# Altium footprint library CONN_TBLOCK_8P25to15P0.PcbLib: 118 footprints (part 2 of 8)
Each footprint in its own frame and in the unit in brackets; x right, y up, seen from the top. Pads: shape width x height; smd on the part's side, far side on the other; paste and mask are expansions set on the pad; w line width, h text height; cw(c..) or ccw(c..) is an arc to the next point about the centre after c.
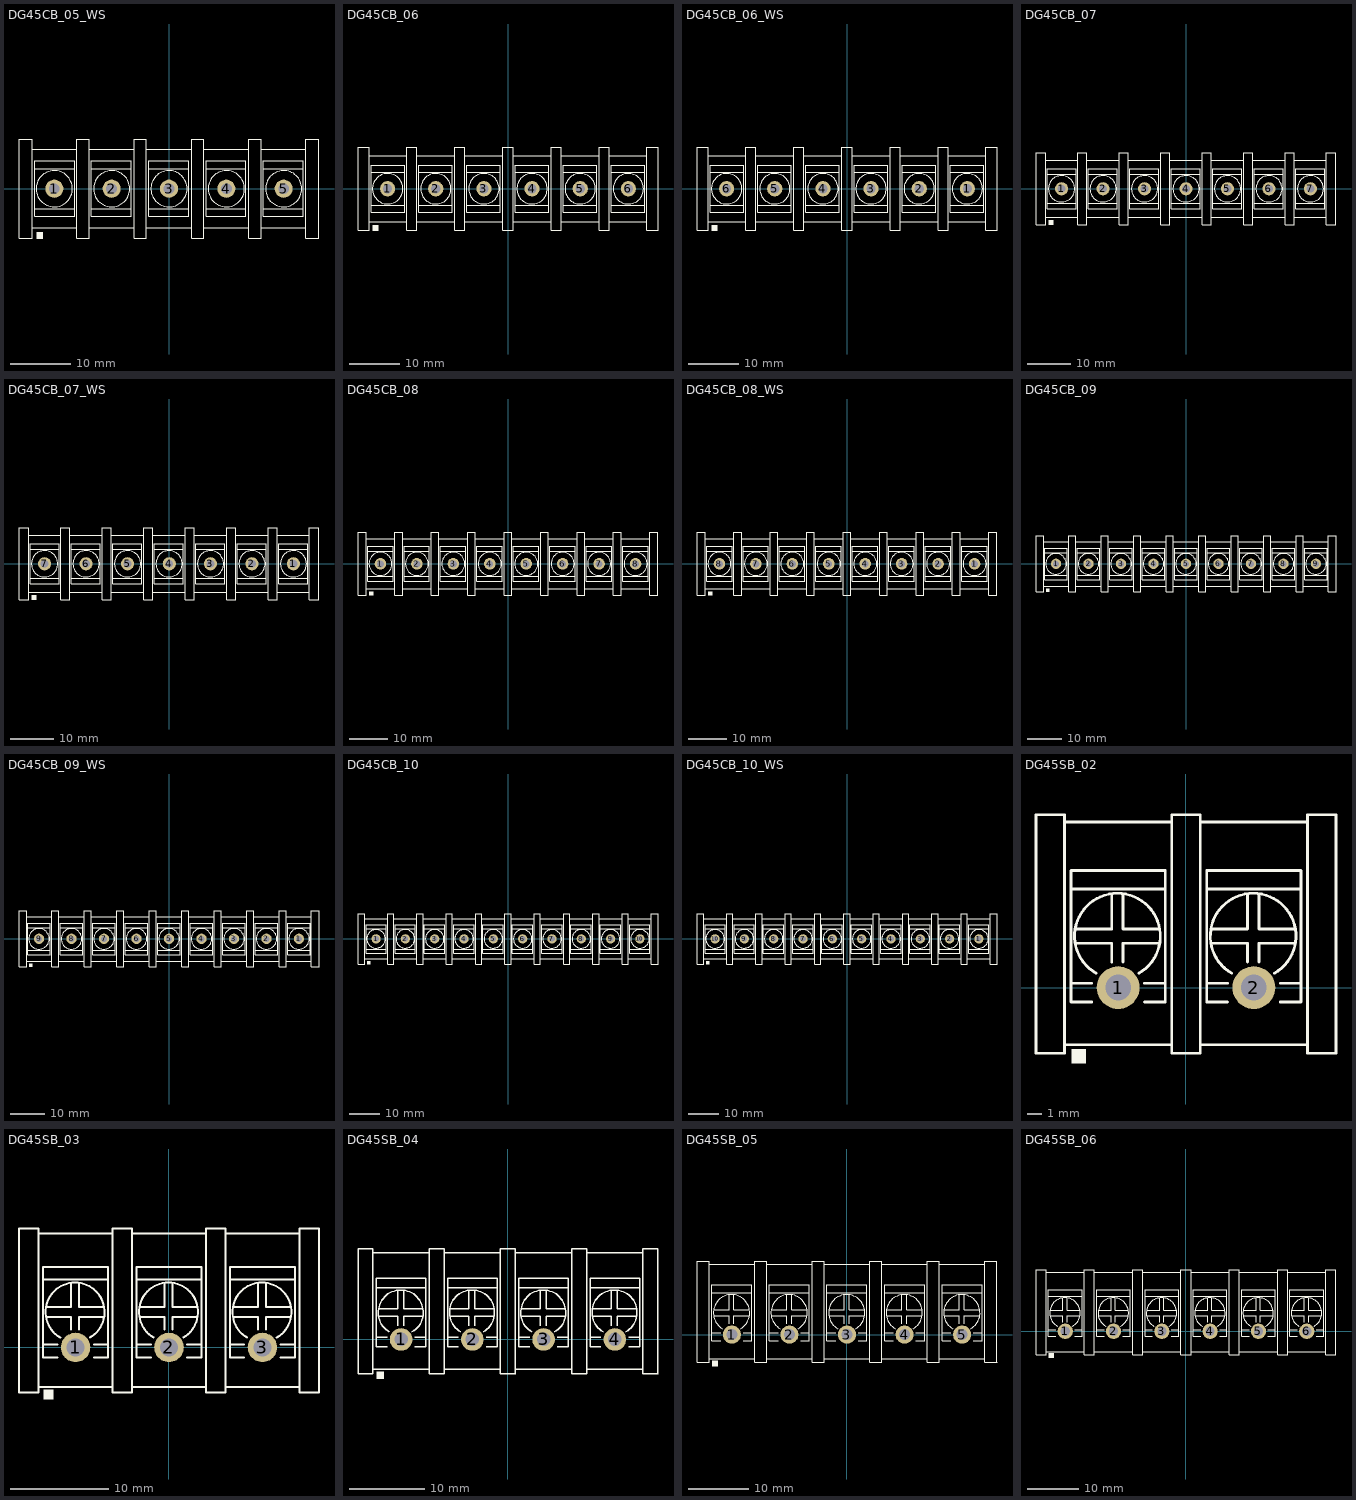
[diagram p1: the footprints below, top view; thin cyan lines are the x and y axes]

## DG45CB_05_WS [mm] "Terminal Block Screw, Pitch 9.5mm, 20A/300v, with Spade"
height 20
pads (5):
  round 3 / inner round 3 / far side oval 3.5x5 hole 1.8: 1(-19,0) 2(-9.5,0) 3(0,0) 4(9.5,0) 5(19,0)
Top Overlay:
  circle w0.2: c19,0 r3
  circle w0.2: c9.5,0 r3
  circle w0.2: c-9.5,0 r3
  circle w0.2: c-19,0 r3
  circle w0.2: c0,0 r3
  rectangle: -21.95,-8.3 -20.85,-7.2
  lines w0.2: -22.65,-6.5 -15.25,-6.5 ; -22.65,6.5 -15.25,6.5 ; -22.25,-3.3 -15.65,-3.3 ; -22.25,3.3 -15.65,3.3 ; -13.25,-6.5 -5.85,-6.5 ; -13.25,6.5 -5.85,6.5 ; -12.85,-3.3 -6.25,-3.3 ; -12.85,3.3 -6.25,3.3 ; -3.75,-6.5 3.65,-6.5 ; -3.75,6.5 3.65,6.5 ; -3.35,-3.3 3.25,-3.3 ; -3.35,3.3 3.25,3.3 ; 5.75,-6.5 13.15,-6.5 ; 5.75,6.5 13.15,6.5 ; 6.15,-3.3 12.75,-3.3 ; 6.15,3.3 12.75,3.3 ; 15.25,-6.5 22.65,-6.5 ; 15.25,6.5 22.65,6.5 ; 15.65,-3.3 22.25,-3.3 ; 15.65,3.3 22.25,3.3 ; -24.85,-8.2 -22.65,-8.2 -22.65,8.2 -24.85,8.2 -24.85,-8.2 ; -22.25,-4.6 -15.65,-4.6 -15.65,4.6 -22.25,4.6 -22.25,-4.6 ; -15.25,-8.2 -15.25,8.2 -13.25,8.2 -13.25,-8.2 -15.25,-8.2 ; -12.85,-4.6 -12.85,4.6 -6.25,4.6 -6.25,-4.6 -12.85,-4.6 ; -5.75,-8.2 -3.75,-8.2 -3.75,8.2 -5.75,8.2 -5.75,-8.2 ; -3.35,-4.6 3.25,-4.6 3.25,4.6 -3.35,4.6 -3.35,-4.6 ; 3.75,-8.2 5.75,-8.2 5.75,8.2 3.75,8.2 3.75,-8.2 ; 6.15,-4.6 12.75,-4.6 12.75,4.6 6.15,4.6 6.15,-4.6 ; 13.25,-8.2 15.25,-8.2 15.25,8.2 13.25,8.2 13.25,-8.2 ; 15.65,-4.6 22.25,-4.6 22.25,4.6 15.65,4.6 15.65,-4.6 ; 22.65,-8.2 22.65,8.2 24.85,8.2 24.85,-8.2 22.65,-8.2
3D body "SV5.5-3.5-tin.step": height 17.15, standoff 9.25, extent 14.85,-3.792 23.15,21.7
3D body "SV5.5-3.5-tin.step": height 17.15, standoff 9.25, extent 5.35,-3.792 13.65,21.7
3D body "SV5.5-3.5-tin.step": height 17.15, standoff 9.25, extent -4.326,-3.792 3.974,21.7
3D body "SV5.5-3.5-tin.step": height 17.15, standoff 9.25, extent -13.65,-3.792 -5.35,21.7
3D body "SV5.5-3.5-tin.step": height 17.15, standoff 9.25, extent -23.15,-3.792 -14.85,21.7
3D body "DG45C-B-02P-13.stp": height 18.4, standoff -5.19, extent 3.8,-8.15 24.7,8.15
3D body "DG45C-B-04P-13.stp": height 18.4, standoff -5.19, extent -24.7,-8.15 15.2,8.15

## DG45CB_06 [mm] "Terminal Block Screw, Pitch 9.5mm, 20A/300v"
height 20
pads (6):
  round 3 / inner round 3 / far side oval 3.5x5 hole 1.8: 1(-23.75,0) 2(-14.25,0) 3(-4.75,0) 4(4.75,0) 5(14.25,0) 6(23.75,0)
Top Overlay:
  circle w0.2: c23.75,0 r3
  circle w0.2: c14.25,0 r3
  circle w0.2: c4.75,0 r3
  circle w0.2: c-14.25,0 r3
  circle w0.2: c-23.75,0 r3
  circle w0.2: c-4.75,0 r3
  rectangle: -26.7,-8.3 -25.6,-7.2
  lines w0.2: -27.4,-6.5 -20,-6.5 ; -27.4,6.5 -20,6.5 ; -27,-3.3 -20.4,-3.3 ; -27,3.3 -20.4,3.3 ; -18,-6.5 -10.6,-6.5 ; -18,6.5 -10.6,6.5 ; -17.6,-3.3 -11,-3.3 ; -17.6,3.3 -11,3.3 ; -8.5,-6.5 -1.1,-6.5 ; -8.5,6.5 -1.1,6.5 ; -8.1,-3.3 -1.5,-3.3 ; -8.1,3.3 -1.5,3.3 ; 1,-8.2 1,8.2 ; 1,-6.5 8.4,-6.5 ; 1,6.5 8.4,6.5 ; 1,-8.2 -1,-8.2 -1,8.2 1,8.2 ; 1.4,-3.3 8,-3.3 ; 1.4,3.3 8,3.3 ; 10.5,-6.5 17.9,-6.5 ; 10.5,6.5 17.9,6.5 ; 10.9,-3.3 17.5,-3.3 ; 10.9,3.3 17.5,3.3 ; 20,-6.5 27.4,-6.5 ; 20,6.5 27.4,6.5 ; 20.4,-3.3 27,-3.3 ; 20.4,3.3 27,3.3 ; -29.6,-8.2 -27.4,-8.2 -27.4,8.2 -29.6,8.2 -29.6,-8.2 ; -27,-4.6 -20.4,-4.6 -20.4,4.6 -27,4.6 -27,-4.6 ; -20,-8.2 -20,8.2 -18,8.2 -18,-8.2 -20,-8.2 ; -17.6,-4.6 -17.6,4.6 -11,4.6 -11,-4.6 -17.6,-4.6 ; -10.5,-8.2 -8.5,-8.2 -8.5,8.2 -10.5,8.2 -10.5,-8.2 ; -8.1,-4.6 -1.5,-4.6 -1.5,4.6 -8.1,4.6 -8.1,-4.6 ; 1.4,-4.6 8,-4.6 8,4.6 1.4,4.6 1.4,-4.6 ; 8.5,-8.2 10.5,-8.2 10.5,8.2 8.5,8.2 8.5,-8.2 ; 10.9,-4.6 17.5,-4.6 17.5,4.6 10.9,4.6 10.9,-4.6 ; 18,-8.2 20,-8.2 20,8.2 18,8.2 18,-8.2 ; 20.4,-4.6 27,-4.6 27,4.6 20.4,4.6 20.4,-4.6 ; 27.4,-8.2 27.4,8.2 29.6,8.2 29.6,-8.2 27.4,-8.2
3D body "DG45C-B-06P-13.stp": height 18.4, standoff -5.19, extent -29.45,-8.15 29.45,8.15

## DG45CB_06_WS [mm] "Terminal Block Screw, Pitch 9.5mm, 20A/300v, with Spade"
height 19
pads (6):
  round 3 / inner round 3 / far side oval 3.5x5 hole 1.8: 1(23.75,0) 2(14.25,0) 3(4.75,0) 4(-4.75,0) 5(-14.25,0) 6(-23.75,0)
Top Overlay:
  circle w0.2: c23.75,0 r3
  circle w0.2: c14.25,0 r3
  circle w0.2: c4.75,0 r3
  circle w0.2: c-14.25,0 r3
  circle w0.2: c-23.75,0 r3
  circle w0.2: c-4.75,0 r3
  rectangle: -26.7,-8.3 -25.6,-7.2
  lines w0.2: -27.4,-6.5 -20,-6.5 ; -27.4,6.5 -20,6.5 ; -27,-3.3 -20.4,-3.3 ; -27,3.3 -20.4,3.3 ; -18,-6.5 -10.6,-6.5 ; -18,6.5 -10.6,6.5 ; -17.6,-3.3 -11,-3.3 ; -17.6,3.3 -11,3.3 ; -8.5,-6.5 -1.1,-6.5 ; -8.5,6.5 -1.1,6.5 ; -8.1,-3.3 -1.5,-3.3 ; -8.1,3.3 -1.5,3.3 ; 1,-8.2 1,8.2 ; 1,-6.5 8.4,-6.5 ; 1,6.5 8.4,6.5 ; 1,-8.2 -1,-8.2 -1,8.2 1,8.2 ; 1.4,-3.3 8,-3.3 ; 1.4,3.3 8,3.3 ; 10.5,-6.5 17.9,-6.5 ; 10.5,6.5 17.9,6.5 ; 10.9,-3.3 17.5,-3.3 ; 10.9,3.3 17.5,3.3 ; 20,-6.5 27.4,-6.5 ; 20,6.5 27.4,6.5 ; 20.4,-3.3 27,-3.3 ; 20.4,3.3 27,3.3 ; -29.6,-8.2 -27.4,-8.2 -27.4,8.2 -29.6,8.2 -29.6,-8.2 ; -27,-4.6 -20.4,-4.6 -20.4,4.6 -27,4.6 -27,-4.6 ; -20,-8.2 -20,8.2 -18,8.2 -18,-8.2 -20,-8.2 ; -17.6,-4.6 -17.6,4.6 -11,4.6 -11,-4.6 -17.6,-4.6 ; -10.5,-8.2 -8.5,-8.2 -8.5,8.2 -10.5,8.2 -10.5,-8.2 ; -8.1,-4.6 -1.5,-4.6 -1.5,4.6 -8.1,4.6 -8.1,-4.6 ; 1.4,-4.6 8,-4.6 8,4.6 1.4,4.6 1.4,-4.6 ; 8.5,-8.2 10.5,-8.2 10.5,8.2 8.5,8.2 8.5,-8.2 ; 10.9,-4.6 17.5,-4.6 17.5,4.6 10.9,4.6 10.9,-4.6 ; 18,-8.2 20,-8.2 20,8.2 18,8.2 18,-8.2 ; 20.4,-4.6 27,-4.6 27,4.6 20.4,4.6 20.4,-4.6 ; 27.4,-8.2 27.4,8.2 29.6,8.2 29.6,-8.2 27.4,-8.2
3D body "DG45C-B-06P-13.stp": height 18.4, standoff -5.19, extent -29.45,-8.15 29.45,8.15
3D body "SV5.5-3.5-tin.step": height 17.15, standoff 9.25, extent -27.9,-3.792 -19.6,21.7
3D body "SV5.5-3.5-tin.step": height 17.15, standoff 9.25, extent -18.4,-3.792 -10.1,21.7
3D body "SV5.5-3.5-tin.step": height 17.15, standoff 9.25, extent -8.9,-3.792 -0.6,21.7
3D body "SV5.5-3.5-tin.step": height 17.15, standoff 9.25, extent 0.6,-3.792 8.9,21.7
3D body "SV5.5-3.5-tin.step": height 17.15, standoff 9.25, extent 10.1,-3.792 18.4,21.7
3D body "SV5.5-3.5-tin.step": height 17.15, standoff 9.25, extent 19.6,-3.792 27.9,21.7

## DG45CB_07 [mm] "Terminal Block Screw, Pitch 9.5mm, 20A/300v"
height 20
pads (7):
  round 3 / inner round 3 / far side oval 3.5x5 hole 1.8: 1(-28.5,0) 2(-19,0) 3(-9.5,0) 4(0,0) 5(9.5,0) 6(19,0) 7(28.5,0)
Top Overlay:
  circle w0.2: c19,0 r3
  circle w0.2: c9.5,0 r3
  circle w0.2: c0,0 r3
  circle w0.2: c-19,0 r3
  circle w0.2: c-28.5,0 r3
  circle w0.2: c-9.5,0 r3
  circle w0.2: c28.5,0 r3
  rectangle: -31.45,-8.3 -30.35,-7.2
  lines w0.2: -32.15,-6.5 -24.75,-6.5 ; -32.15,6.5 -24.75,6.5 ; -31.75,-3.3 -25.15,-3.3 ; -31.75,3.3 -25.15,3.3 ; -22.75,-6.5 -15.35,-6.5 ; -22.75,6.5 -15.35,6.5 ; -22.35,-3.3 -15.75,-3.3 ; -22.35,3.3 -15.75,3.3 ; -13.25,-6.5 -5.85,-6.5 ; -13.25,6.5 -5.85,6.5 ; -12.85,-3.3 -6.25,-3.3 ; -12.85,3.3 -6.25,3.3 ; -3.75,-6.5 3.65,-6.5 ; -3.75,6.5 3.65,6.5 ; -3.35,-3.3 3.25,-3.3 ; -3.35,3.3 3.25,3.3 ; 5.75,-6.5 13.15,-6.5 ; 5.75,6.5 13.15,6.5 ; 6.15,-3.3 12.75,-3.3 ; 6.15,3.3 12.75,3.3 ; 15.25,-6.5 22.65,-6.5 ; 15.25,6.5 22.65,6.5 ; 15.65,-3.3 22.25,-3.3 ; 15.65,3.3 22.25,3.3 ; 24.75,-6.5 32.15,-6.5 ; 24.75,6.5 32.15,6.5 ; 25.15,-3.3 31.75,-3.3 ; 25.15,3.3 31.75,3.3 ; -34.35,-8.2 -32.15,-8.2 -32.15,8.2 -34.35,8.2 -34.35,-8.2 ; -31.75,-4.6 -25.15,-4.6 -25.15,4.6 -31.75,4.6 -31.75,-4.6 ; -24.75,-8.2 -24.75,8.2 -22.75,8.2 -22.75,-8.2 -24.75,-8.2 ; -22.35,-4.6 -22.35,4.6 -15.75,4.6 -15.75,-4.6 -22.35,-4.6 ; -15.25,-8.2 -13.25,-8.2 -13.25,8.2 -15.25,8.2 -15.25,-8.2 ; -12.85,-4.6 -6.25,-4.6 -6.25,4.6 -12.85,4.6 -12.85,-4.6 ; -5.75,-8.2 -3.75,-8.2 -3.75,8.2 -5.75,8.2 -5.75,-8.2 ; -3.35,-4.6 3.25,-4.6 3.25,4.6 -3.35,4.6 -3.35,-4.6 ; 3.75,-8.2 5.75,-8.2 5.75,8.2 3.75,8.2 3.75,-8.2 ; 6.15,-4.6 12.75,-4.6 12.75,4.6 6.15,4.6 6.15,-4.6 ; 13.25,-8.2 15.25,-8.2 15.25,8.2 13.25,8.2 13.25,-8.2 ; 15.65,-4.6 22.25,-4.6 22.25,4.6 15.65,4.6 15.65,-4.6 ; 22.75,-8.2 24.75,-8.2 24.75,8.2 22.75,8.2 22.75,-8.2 ; 25.15,-4.6 31.75,-4.6 31.75,4.6 25.15,4.6 25.15,-4.6 ; 32.15,-8.2 32.15,8.2 34.35,8.2 34.35,-8.2 32.15,-8.2
3D body "DG45C-B-07P-13.stp": height 18.4, standoff -5.19, extent -34.2,-8.15 34.2,8.15

## DG45CB_07_WS [mm] "Terminal Block Screw, Pitch 9.5mm, 20A/300v, with Spade"
height 19
pads (7):
  round 3 / inner round 3 / far side oval 3.5x5 hole 1.8: 1(28.5,0) 2(19,0) 3(9.5,0) 4(0.064,0) 5(-9.5,0) 6(-19,0) 7(-28.5,0)
Top Overlay:
  circle w0.2: c28.5,0 r3
  circle w0.2: c-9.5,0 r3
  circle w0.2: c-28.5,0 r3
  circle w0.2: c-19,0 r3
  circle w0.2: c0,0 r3
  circle w0.2: c9.5,0 r3
  circle w0.2: c19,0 r3
  rectangle: -31.45,-8.3 -30.35,-7.2
  lines w0.2: -32.15,-6.5 -24.75,-6.5 ; -32.15,6.5 -24.75,6.5 ; -31.75,-3.3 -25.15,-3.3 ; -31.75,3.3 -25.15,3.3 ; -22.75,-6.5 -15.35,-6.5 ; -22.75,6.5 -15.35,6.5 ; -22.35,-3.3 -15.75,-3.3 ; -22.35,3.3 -15.75,3.3 ; -13.25,-6.5 -5.85,-6.5 ; -13.25,6.5 -5.85,6.5 ; -12.85,-3.3 -6.25,-3.3 ; -12.85,3.3 -6.25,3.3 ; -3.75,-6.5 3.65,-6.5 ; -3.75,6.5 3.65,6.5 ; -3.35,-3.3 3.25,-3.3 ; -3.35,3.3 3.25,3.3 ; 5.75,-6.5 13.15,-6.5 ; 5.75,6.5 13.15,6.5 ; 6.15,-3.3 12.75,-3.3 ; 6.15,3.3 12.75,3.3 ; 15.25,-6.5 22.65,-6.5 ; 15.25,6.5 22.65,6.5 ; 15.65,-3.3 22.25,-3.3 ; 15.65,3.3 22.25,3.3 ; 24.75,-6.5 32.15,-6.5 ; 24.75,6.5 32.15,6.5 ; 25.15,-3.3 31.75,-3.3 ; 25.15,3.3 31.75,3.3 ; -34.35,-8.2 -34.35,8.2 -32.15,8.2 -32.15,-8.2 -34.35,-8.2 ; -31.75,-4.6 -31.75,4.6 -25.15,4.6 -25.15,-4.6 -31.75,-4.6 ; -24.75,-8.2 -22.75,-8.2 -22.75,8.2 -24.75,8.2 -24.75,-8.2 ; -22.35,-4.6 -15.75,-4.6 -15.75,4.6 -22.35,4.6 -22.35,-4.6 ; -15.25,-8.2 -15.25,8.2 -13.25,8.2 -13.25,-8.2 -15.25,-8.2 ; -12.85,-4.6 -12.85,4.6 -6.25,4.6 -6.25,-4.6 -12.85,-4.6 ; -5.75,-8.2 -5.75,8.2 -3.75,8.2 -3.75,-8.2 -5.75,-8.2 ; -3.35,-4.6 -3.35,4.6 3.25,4.6 3.25,-4.6 -3.35,-4.6 ; 3.75,-8.2 3.75,8.2 5.75,8.2 5.75,-8.2 3.75,-8.2 ; 6.15,-4.6 6.15,4.6 12.75,4.6 12.75,-4.6 6.15,-4.6 ; 13.25,-8.2 13.25,8.2 15.25,8.2 15.25,-8.2 13.25,-8.2 ; 15.65,-4.6 15.65,4.6 22.25,4.6 22.25,-4.6 15.65,-4.6 ; 22.75,-8.2 22.75,8.2 24.75,8.2 24.75,-8.2 22.75,-8.2 ; 25.15,-4.6 25.15,4.6 31.75,4.6 31.75,-4.6 25.15,-4.6 ; 32.15,-8.2 34.35,-8.2 34.35,8.2 32.15,8.2 32.15,-8.2
3D body "DG45C-B-07P-13.stp": height 18.4, standoff -5.19, extent -34.2,-8.15 34.2,8.15
3D body "SV5.5-3.5-tin.step": height 17.15, standoff 9.25, extent -32.65,-3.792 -24.35,21.7
3D body "SV5.5-3.5-tin.step": height 17.15, standoff 9.25, extent -23.15,-3.792 -14.85,21.7
3D body "SV5.5-3.5-tin.step": height 17.15, standoff 9.25, extent -13.65,-3.792 -5.35,21.7
3D body "SV5.5-3.5-tin.step": height 17.15, standoff 9.25, extent -4.34,-3.792 3.959,21.7
3D body "SV5.5-3.5-tin.step": height 17.15, standoff 9.25, extent 5.35,-3.792 13.65,21.7
3D body "SV5.5-3.5-tin.step": height 17.15, standoff 9.25, extent 14.85,-3.792 23.15,21.7
3D body "SV5.5-3.5-tin.step": height 17.15, standoff 9.25, extent 24.35,-3.792 32.65,21.7

## DG45CB_08 [mm] "Terminal Block Screw, Pitch 9.5mm, 20A/300v"
height 20
pads (8):
  round 3 / inner round 3 / far side oval 3.5x5 hole 1.8: 1(-33.25,0) 2(-23.75,0) 3(-14.25,0) 4(-4.75,0) 5(4.75,0) 6(14.25,0) 7(23.75,0) 8(33.25,0)
Top Overlay:
  circle w0.2: c33.25,0 r3
  circle w0.2: c14.25,0 r3
  circle w0.2: c4.75,0 r3
  circle w0.2: c-4.75,0 r3
  circle w0.2: c-23.75,0 r3
  circle w0.2: c-33.25,0 r3
  circle w0.2: c-14.25,0 r3
  circle w0.2: c23.75,0 r3
  rectangle: -36.2,-8.3 -35.1,-7.2
  lines w0.2: -36.9,-6.5 -29.5,-6.5 ; -36.9,6.5 -29.5,6.5 ; -36.5,-3.3 -29.9,-3.3 ; -36.5,3.3 -29.9,3.3 ; -27.5,-8.2 -27.5,8.2 ; -27.5,-6.5 -20.1,-6.5 ; -27.5,6.5 -20.1,6.5 ; -27.5,-8.2 -29.5,-8.2 -29.5,8.2 -27.5,8.2 ; -27.1,-3.3 -20.5,-3.3 ; -27.1,3.3 -20.5,3.3 ; -18,-6.5 -10.6,-6.5 ; -18,6.5 -10.6,6.5 ; -17.6,-3.3 -11,-3.3 ; -17.6,3.3 -11,3.3 ; -8.5,-6.5 -1.1,-6.5 ; -8.5,6.5 -1.1,6.5 ; -8.1,-3.3 -1.5,-3.3 ; -8.1,3.3 -1.5,3.3 ; 1,-8.2 1,8.2 ; 1,-6.5 8.4,-6.5 ; 1,6.5 8.4,6.5 ; 1,-8.2 -1,-8.2 -1,8.2 1,8.2 ; 1.4,-3.3 8,-3.3 ; 1.4,3.3 8,3.3 ; 10.5,-6.5 17.9,-6.5 ; 10.5,6.5 17.9,6.5 ; 10.9,-3.3 17.5,-3.3 ; 10.9,3.3 17.5,3.3 ; 20,-6.5 27.4,-6.5 ; 20,6.5 27.4,6.5 ; 20.4,-3.3 27,-3.3 ; 20.4,3.3 27,3.3 ; 29.5,-6.5 36.9,-6.5 ; 29.5,6.5 36.9,6.5 ; 29.9,-3.3 36.5,-3.3 ; 29.9,3.3 36.5,3.3 ; -39.1,-8.2 -36.9,-8.2 -36.9,8.2 -39.1,8.2 -39.1,-8.2 ; -36.5,-4.6 -29.9,-4.6 -29.9,4.6 -36.5,4.6 -36.5,-4.6 ; -27.1,-4.6 -27.1,4.6 -20.5,4.6 -20.5,-4.6 -27.1,-4.6 ; -20,-8.2 -18,-8.2 -18,8.2 -20,8.2 -20,-8.2 ; -17.6,-4.6 -11,-4.6 -11,4.6 -17.6,4.6 -17.6,-4.6 ; -10.5,-8.2 -8.5,-8.2 -8.5,8.2 -10.5,8.2 -10.5,-8.2 ; -8.1,-4.6 -1.5,-4.6 -1.5,4.6 -8.1,4.6 -8.1,-4.6 ; 1.4,-4.6 8,-4.6 8,4.6 1.4,4.6 1.4,-4.6 ; 8.5,-8.2 10.5,-8.2 10.5,8.2 8.5,8.2 8.5,-8.2 ; 10.9,-4.6 17.5,-4.6 17.5,4.6 10.9,4.6 10.9,-4.6 ; 18,-8.2 20,-8.2 20,8.2 18,8.2 18,-8.2 ; 20.4,-4.6 27,-4.6 27,4.6 20.4,4.6 20.4,-4.6 ; 27.5,-8.2 29.5,-8.2 29.5,8.2 27.5,8.2 27.5,-8.2 ; 29.9,-4.6 36.5,-4.6 36.5,4.6 29.9,4.6 29.9,-4.6 ; 36.9,-8.2 36.9,8.2 39.1,8.2 39.1,-8.2 36.9,-8.2
3D body "DG45C-B-08P-13.stp": height 18.4, standoff -5.19, extent -38.95,-8.15 38.95,8.15

## DG45CB_08_WS [mm] "Terminal Block Screw, Pitch 9.5mm, 20A/300v, with Spade"
height 19
pads (8):
  round 3 / inner round 3 / far side oval 3.5x5 hole 1.8: 1(33.25,0) 2(23.75,0) 3(14.25,0) 4(4.75,0) 5(-4.75,0) 6(-14.25,0) 7(-23.75,0) 8(-33.25,0)
Top Overlay:
  circle w0.2: c33.25,0 r3
  circle w0.2: c14.25,0 r3
  circle w0.2: c4.75,0 r3
  circle w0.2: c-4.75,0 r3
  circle w0.2: c-23.75,0 r3
  circle w0.2: c-33.25,0 r3
  circle w0.2: c-14.25,0 r3
  circle w0.2: c23.75,0 r3
  rectangle: -36.2,-8.3 -35.1,-7.2
  lines w0.2: -36.9,-6.5 -29.5,-6.5 ; -36.9,6.5 -29.5,6.5 ; -36.5,-3.3 -29.9,-3.3 ; -36.5,3.3 -29.9,3.3 ; -27.5,-8.2 -27.5,8.2 ; -27.5,-6.5 -20.1,-6.5 ; -27.5,6.5 -20.1,6.5 ; -27.5,-8.2 -29.5,-8.2 -29.5,8.2 -27.5,8.2 ; -27.1,-3.3 -20.5,-3.3 ; -27.1,3.3 -20.5,3.3 ; -18,-6.5 -10.6,-6.5 ; -18,6.5 -10.6,6.5 ; -17.6,-3.3 -11,-3.3 ; -17.6,3.3 -11,3.3 ; -8.5,-6.5 -1.1,-6.5 ; -8.5,6.5 -1.1,6.5 ; -8.1,-3.3 -1.5,-3.3 ; -8.1,3.3 -1.5,3.3 ; 1,-8.2 1,8.2 ; 1,-6.5 8.4,-6.5 ; 1,6.5 8.4,6.5 ; 1,-8.2 -1,-8.2 -1,8.2 1,8.2 ; 1.4,-3.3 8,-3.3 ; 1.4,3.3 8,3.3 ; 10.5,-6.5 17.9,-6.5 ; 10.5,6.5 17.9,6.5 ; 10.9,-3.3 17.5,-3.3 ; 10.9,3.3 17.5,3.3 ; 20,-6.5 27.4,-6.5 ; 20,6.5 27.4,6.5 ; 20.4,-3.3 27,-3.3 ; 20.4,3.3 27,3.3 ; 29.5,-6.5 36.9,-6.5 ; 29.5,6.5 36.9,6.5 ; 29.9,-3.3 36.5,-3.3 ; 29.9,3.3 36.5,3.3 ; -39.1,-8.2 -36.9,-8.2 -36.9,8.2 -39.1,8.2 -39.1,-8.2 ; -36.5,-4.6 -29.9,-4.6 -29.9,4.6 -36.5,4.6 -36.5,-4.6 ; -27.1,-4.6 -27.1,4.6 -20.5,4.6 -20.5,-4.6 -27.1,-4.6 ; -20,-8.2 -18,-8.2 -18,8.2 -20,8.2 -20,-8.2 ; -17.6,-4.6 -11,-4.6 -11,4.6 -17.6,4.6 -17.6,-4.6 ; -10.5,-8.2 -8.5,-8.2 -8.5,8.2 -10.5,8.2 -10.5,-8.2 ; -8.1,-4.6 -1.5,-4.6 -1.5,4.6 -8.1,4.6 -8.1,-4.6 ; 1.4,-4.6 8,-4.6 8,4.6 1.4,4.6 1.4,-4.6 ; 8.5,-8.2 10.5,-8.2 10.5,8.2 8.5,8.2 8.5,-8.2 ; 10.9,-4.6 17.5,-4.6 17.5,4.6 10.9,4.6 10.9,-4.6 ; 18,-8.2 20,-8.2 20,8.2 18,8.2 18,-8.2 ; 20.4,-4.6 27,-4.6 27,4.6 20.4,4.6 20.4,-4.6 ; 27.5,-8.2 29.5,-8.2 29.5,8.2 27.5,8.2 27.5,-8.2 ; 29.9,-4.6 36.5,-4.6 36.5,4.6 29.9,4.6 29.9,-4.6 ; 36.9,-8.2 36.9,8.2 39.1,8.2 39.1,-8.2 36.9,-8.2
3D body "DG45C-B-08P-13.stp": height 18.4, standoff -5.19, extent -38.95,-8.15 38.95,8.15
3D body "SV5.5-3.5-tin.step": height 17.15, standoff 9.25, extent 29.1,-3.792 37.4,21.7
3D body "SV5.5-3.5-tin.step": height 17.15, standoff 9.25, extent 19.6,-3.792 27.9,21.7
3D body "SV5.5-3.5-tin.step": height 17.15, standoff 9.25, extent 10.1,-3.792 18.4,21.7
3D body "SV5.5-3.5-tin.step": height 17.15, standoff 9.25, extent 0.6,-3.792 8.9,21.7
3D body "SV5.5-3.5-tin.step": height 17.15, standoff 9.25, extent -8.9,-3.792 -0.6,21.7
3D body "SV5.5-3.5-tin.step": height 17.15, standoff 9.25, extent -18.4,-3.792 -10.1,21.7
3D body "SV5.5-3.5-tin.step": height 17.15, standoff 9.25, extent -27.9,-3.792 -19.6,21.7
3D body "SV5.5-3.5-tin.step": height 17.15, standoff 9.25, extent -37.4,-3.792 -29.1,21.7

## DG45CB_09 [mm] "Terminal Block Screw, Pitch 9.5mm, 20A/300v"
height 20
pads (9):
  round 3 / inner round 3 / far side oval 3.5x5 hole 1.8: 1(-38,0) 2(-28.5,0) 3(-19,0) 4(-9.5,0) 5(0,0) 6(9.5,0) 7(19,0) 8(28.5,0) 9(38,0)
Top Overlay:
  circle w0.2: c19,0 r3
  circle w0.2: c-19,0 r3
  circle w0.2: c-38,0 r3
  circle w0.2: c-28.5,0 r3
  circle w0.2: c-9.5,0 r3
  circle w0.2: c0,0 r3
  circle w0.2: c9.5,0 r3
  circle w0.2: c28.5,0 r3
  circle w0.2: c38,0 r3
  rectangle: -40.95,-8.3 -39.85,-7.2
  lines w0.2: -41.65,-6.5 -34.25,-6.5 ; -41.65,6.5 -34.25,6.5 ; -41.25,-3.3 -34.65,-3.3 ; -41.25,3.3 -34.65,3.3 ; -32.25,-6.5 -24.85,-6.5 ; -32.25,6.5 -24.85,6.5 ; -31.85,-3.3 -25.25,-3.3 ; -31.85,3.3 -25.25,3.3 ; -22.75,-6.5 -15.35,-6.5 ; -22.75,6.5 -15.35,6.5 ; -22.35,-3.3 -15.75,-3.3 ; -22.35,3.3 -15.75,3.3 ; -13.25,-6.5 -5.85,-6.5 ; -13.25,6.5 -5.85,6.5 ; -12.85,-3.3 -6.25,-3.3 ; -12.85,3.3 -6.25,3.3 ; -3.75,-6.5 3.65,-6.5 ; -3.75,6.5 3.65,6.5 ; -3.35,-3.3 3.25,-3.3 ; -3.35,3.3 3.25,3.3 ; 5.75,-6.5 13.15,-6.5 ; 5.75,6.5 13.15,6.5 ; 6.15,-3.3 12.75,-3.3 ; 6.15,3.3 12.75,3.3 ; 15.25,-6.5 22.65,-6.5 ; 15.25,6.5 22.65,6.5 ; 15.65,-3.3 22.25,-3.3 ; 15.65,3.3 22.25,3.3 ; 24.75,-6.5 32.15,-6.5 ; 24.75,6.5 32.15,6.5 ; 25.15,-3.3 31.75,-3.3 ; 25.15,3.3 31.75,3.3 ; 34.25,-8.2 34.25,8.2 ; 34.25,-6.5 41.65,-6.5 ; 34.25,6.5 41.65,6.5 ; 34.25,-8.2 32.25,-8.2 32.25,8.2 34.25,8.2 ; 34.65,-3.3 41.25,-3.3 ; 34.65,3.3 41.25,3.3 ; -43.85,-8.2 -43.85,8.2 -41.65,8.2 -41.65,-8.2 -43.85,-8.2 ; -41.25,-4.6 -41.25,4.6 -34.65,4.6 -34.65,-4.6 -41.25,-4.6 ; -34.25,-8.2 -32.25,-8.2 -32.25,8.2 -34.25,8.2 -34.25,-8.2 ; -31.85,-4.6 -25.25,-4.6 -25.25,4.6 -31.85,4.6 -31.85,-4.6 ; -24.75,-8.2 -24.75,8.2 -22.75,8.2 -22.75,-8.2 -24.75,-8.2 ; -22.35,-4.6 -22.35,4.6 -15.75,4.6 -15.75,-4.6 -22.35,-4.6 ; -15.25,-8.2 -15.25,8.2 -13.25,8.2 -13.25,-8.2 -15.25,-8.2 ; -12.85,-4.6 -12.85,4.6 -6.25,4.6 -6.25,-4.6 -12.85,-4.6 ; -5.75,-8.2 -5.75,8.2 -3.75,8.2 -3.75,-8.2 -5.75,-8.2 ; -3.35,-4.6 -3.35,4.6 3.25,4.6 3.25,-4.6 -3.35,-4.6 ; 3.75,-8.2 3.75,8.2 5.75,8.2 5.75,-8.2 3.75,-8.2 ; 6.15,-4.6 6.15,4.6 12.75,4.6 12.75,-4.6 6.15,-4.6 ; 13.25,-8.2 13.25,8.2 15.25,8.2 15.25,-8.2 13.25,-8.2 ; 15.65,-4.6 15.65,4.6 22.25,4.6 22.25,-4.6 15.65,-4.6 ; 22.75,-8.2 22.75,8.2 24.75,8.2 24.75,-8.2 22.75,-8.2 ; 25.15,-4.6 25.15,4.6 31.75,4.6 31.75,-4.6 25.15,-4.6 ; 34.65,-4.6 34.65,4.6 41.25,4.6 41.25,-4.6 34.65,-4.6 ; 41.65,-8.2 43.85,-8.2 43.85,8.2 41.65,8.2 41.65,-8.2
3D body "DG45C-B-09P-13.stp": height 18.4, standoff -5.19, extent -43.7,-8.15 43.7,8.15

## DG45CB_09_WS [mm] "Terminal Block Screw, Pitch 9.5mm, 20A/300v, with Spade"
height 19
pads (9):
  round 3 / inner round 3 / far side oval 3.5x5 hole 1.8: 1(38,0) 2(28.5,0) 3(19,0) 4(9.5,0) 5(0,0) 6(-9.5,0) 7(-19,0) 8(-28.5,0) 9(-38,0)
Top Overlay:
  circle w0.2: c19,0 r3
  circle w0.2: c-19,0 r3
  circle w0.2: c-38,0 r3
  circle w0.2: c-28.5,0 r3
  circle w0.2: c-9.5,0 r3
  circle w0.2: c0,0 r3
  circle w0.2: c9.5,0 r3
  circle w0.2: c28.5,0 r3
  circle w0.2: c38,0 r3
  rectangle: -40.95,-8.3 -39.85,-7.2
  lines w0.2: -41.65,-6.5 -34.25,-6.5 ; -41.65,6.5 -34.25,6.5 ; -41.25,-3.3 -34.65,-3.3 ; -41.25,3.3 -34.65,3.3 ; -32.25,-6.5 -24.85,-6.5 ; -32.25,6.5 -24.85,6.5 ; -31.85,-3.3 -25.25,-3.3 ; -31.85,3.3 -25.25,3.3 ; -22.75,-6.5 -15.35,-6.5 ; -22.75,6.5 -15.35,6.5 ; -22.35,-3.3 -15.75,-3.3 ; -22.35,3.3 -15.75,3.3 ; -13.25,-6.5 -5.85,-6.5 ; -13.25,6.5 -5.85,6.5 ; -12.85,-3.3 -6.25,-3.3 ; -12.85,3.3 -6.25,3.3 ; -3.75,-6.5 3.65,-6.5 ; -3.75,6.5 3.65,6.5 ; -3.35,-3.3 3.25,-3.3 ; -3.35,3.3 3.25,3.3 ; 5.75,-6.5 13.15,-6.5 ; 5.75,6.5 13.15,6.5 ; 6.15,-3.3 12.75,-3.3 ; 6.15,3.3 12.75,3.3 ; 15.25,-6.5 22.65,-6.5 ; 15.25,6.5 22.65,6.5 ; 15.65,-3.3 22.25,-3.3 ; 15.65,3.3 22.25,3.3 ; 24.75,-6.5 32.15,-6.5 ; 24.75,6.5 32.15,6.5 ; 25.15,-3.3 31.75,-3.3 ; 25.15,3.3 31.75,3.3 ; 34.25,-8.2 34.25,8.2 ; 34.25,-6.5 41.65,-6.5 ; 34.25,6.5 41.65,6.5 ; 34.25,-8.2 32.25,-8.2 32.25,8.2 34.25,8.2 ; 34.65,-3.3 41.25,-3.3 ; 34.65,3.3 41.25,3.3 ; -43.85,-8.2 -43.85,8.2 -41.65,8.2 -41.65,-8.2 -43.85,-8.2 ; -41.25,-4.6 -41.25,4.6 -34.65,4.6 -34.65,-4.6 -41.25,-4.6 ; -34.25,-8.2 -32.25,-8.2 -32.25,8.2 -34.25,8.2 -34.25,-8.2 ; -31.85,-4.6 -25.25,-4.6 -25.25,4.6 -31.85,4.6 -31.85,-4.6 ; -24.75,-8.2 -24.75,8.2 -22.75,8.2 -22.75,-8.2 -24.75,-8.2 ; -22.35,-4.6 -22.35,4.6 -15.75,4.6 -15.75,-4.6 -22.35,-4.6 ; -15.25,-8.2 -15.25,8.2 -13.25,8.2 -13.25,-8.2 -15.25,-8.2 ; -12.85,-4.6 -12.85,4.6 -6.25,4.6 -6.25,-4.6 -12.85,-4.6 ; -5.75,-8.2 -5.75,8.2 -3.75,8.2 -3.75,-8.2 -5.75,-8.2 ; -3.35,-4.6 -3.35,4.6 3.25,4.6 3.25,-4.6 -3.35,-4.6 ; 3.75,-8.2 3.75,8.2 5.75,8.2 5.75,-8.2 3.75,-8.2 ; 6.15,-4.6 6.15,4.6 12.75,4.6 12.75,-4.6 6.15,-4.6 ; 13.25,-8.2 13.25,8.2 15.25,8.2 15.25,-8.2 13.25,-8.2 ; 15.65,-4.6 15.65,4.6 22.25,4.6 22.25,-4.6 15.65,-4.6 ; 22.75,-8.2 22.75,8.2 24.75,8.2 24.75,-8.2 22.75,-8.2 ; 25.15,-4.6 25.15,4.6 31.75,4.6 31.75,-4.6 25.15,-4.6 ; 34.65,-4.6 34.65,4.6 41.25,4.6 41.25,-4.6 34.65,-4.6 ; 41.65,-8.2 43.85,-8.2 43.85,8.2 41.65,8.2 41.65,-8.2
3D body "SV5.5-3.5-tin.step": height 17.15, standoff 9.25, extent -42.15,-3.792 -33.85,21.7
3D body "SV5.5-3.5-tin.step": height 17.15, standoff 9.25, extent -32.65,-3.792 -24.35,21.7
3D body "SV5.5-3.5-tin.step": height 17.15, standoff 9.25, extent -23.15,-3.792 -14.85,21.7
3D body "SV5.5-3.5-tin.step": height 17.15, standoff 9.25, extent -13.65,-3.792 -5.35,21.7
3D body "SV5.5-3.5-tin.step": height 17.15, standoff 9.25, extent -4.34,-3.792 3.959,21.7
3D body "SV5.5-3.5-tin.step": height 17.15, standoff 9.25, extent 5.35,-3.792 13.65,21.7
3D body "SV5.5-3.5-tin.step": height 17.15, standoff 9.25, extent 14.85,-3.792 23.15,21.7
3D body "SV5.5-3.5-tin.step": height 17.15, standoff 9.25, extent 24.35,-3.792 32.65,21.7
3D body "SV5.5-3.5-tin.step": height 17.15, standoff 9.25, extent 33.85,-3.792 42.15,21.7
3D body "DG45C-B-09P-13.stp": height 18.4, standoff -5.19, extent -43.7,-8.15 43.7,8.15

## DG45CB_10 [mm] "Terminal Block Screw, Pitch 9.5mm, 20A/300v"
height 20
pads (10):
  round 3 / inner round 3 / far side oval 3.5x5 hole 1.8: 1(-42.75,0) 2(-33.25,0) 3(-23.75,0) 4(-14.25,0) 5(-4.75,0) 6(4.75,0) 7(14.25,0) 8(23.75,0) 9(33.25,0) 10(42.75,0)
Top Overlay:
  circle w0.2: c14.25,0 r3
  circle w0.2: c-23.75,0 r3
  circle w0.2: c-42.75,0 r3
  circle w0.2: c-33.25,0 r3
  circle w0.2: c-14.25,0 r3
  circle w0.2: c-4.75,0 r3
  circle w0.2: c4.75,0 r3
  circle w0.2: c23.75,0 r3
  circle w0.2: c33.25,0 r3
  circle w0.2: c42.75,0 r3
  rectangle: -45.7,-8.3 -44.6,-7.2
  lines w0.2: -46.4,-6.5 -39,-6.5 ; -46.4,6.5 -39,6.5 ; -46,-3.3 -39.4,-3.3 ; -46,3.3 -39.4,3.3 ; -37,-6.5 -29.6,-6.5 ; -37,6.5 -29.6,6.5 ; -36.6,-3.3 -30,-3.3 ; -36.6,3.3 -30,3.3 ; -27.5,-8.2 -27.5,8.2 ; -27.5,-6.5 -20.1,-6.5 ; -27.5,6.5 -20.1,6.5 ; -27.5,-8.2 -29.5,-8.2 -29.5,8.2 -27.5,8.2 ; -27.1,-3.3 -20.5,-3.3 ; -27.1,3.3 -20.5,3.3 ; -18,-6.5 -10.6,-6.5 ; -18,6.5 -10.6,6.5 ; -17.6,-3.3 -11,-3.3 ; -17.6,3.3 -11,3.3 ; -8.5,-6.5 -1.1,-6.5 ; -8.5,6.5 -1.1,6.5 ; -8.1,-3.3 -1.5,-3.3 ; -8.1,3.3 -1.5,3.3 ; 1,-8.2 1,8.2 ; 1,-6.5 8.4,-6.5 ; 1,6.5 8.4,6.5 ; 1,-8.2 -1,-8.2 -1,8.2 1,8.2 ; 1.4,-3.3 8,-3.3 ; 1.4,3.3 8,3.3 ; 10.5,-6.5 17.9,-6.5 ; 10.5,6.5 17.9,6.5 ; 10.9,-3.3 17.5,-3.3 ; 10.9,3.3 17.5,3.3 ; 20,-6.5 27.4,-6.5 ; 20,6.5 27.4,6.5 ; 20.4,-3.3 27,-3.3 ; 20.4,3.3 27,3.3 ; 29.5,-6.5 36.9,-6.5 ; 29.5,6.5 36.9,6.5 ; 29.9,-3.3 36.5,-3.3 ; 29.9,3.3 36.5,3.3 ; 39,-6.5 46.4,-6.5 ; 39,6.5 46.4,6.5 ; 39.4,-3.3 46,-3.3 ; 39.4,3.3 46,3.3 ; -48.6,-8.2 -48.6,8.2 -46.4,8.2 -46.4,-8.2 -48.6,-8.2 ; -46,-4.6 -46,4.6 -39.4,4.6 -39.4,-4.6 -46,-4.6 ; -39,-8.2 -37,-8.2 -37,8.2 -39,8.2 -39,-8.2 ; -36.6,-4.6 -30,-4.6 -30,4.6 -36.6,4.6 -36.6,-4.6 ; -27.1,-4.6 -27.1,4.6 -20.5,4.6 -20.5,-4.6 -27.1,-4.6 ; -20,-8.2 -20,8.2 -18,8.2 -18,-8.2 -20,-8.2 ; -17.6,-4.6 -17.6,4.6 -11,4.6 -11,-4.6 -17.6,-4.6 ; -10.5,-8.2 -10.5,8.2 -8.5,8.2 -8.5,-8.2 -10.5,-8.2 ; -8.1,-4.6 -8.1,4.6 -1.5,4.6 -1.5,-4.6 -8.1,-4.6 ; 1.4,-4.6 1.4,4.6 8,4.6 8,-4.6 1.4,-4.6 ; 8.5,-8.2 8.5,8.2 10.5,8.2 10.5,-8.2 8.5,-8.2 ; 10.9,-4.6 10.9,4.6 17.5,4.6 17.5,-4.6 10.9,-4.6 ; 18,-8.2 18,8.2 20,8.2 20,-8.2 18,-8.2 ; 20.4,-4.6 20.4,4.6 27,4.6 27,-4.6 20.4,-4.6 ; 27.5,-8.2 27.5,8.2 29.5,8.2 29.5,-8.2 27.5,-8.2 ; 29.9,-4.6 29.9,4.6 36.5,4.6 36.5,-4.6 29.9,-4.6 ; 37,-8.2 37,8.2 39,8.2 39,-8.2 37,-8.2 ; 39.4,-4.6 39.4,4.6 46,4.6 46,-4.6 39.4,-4.6 ; 46.4,-8.2 48.6,-8.2 48.6,8.2 46.4,8.2 46.4,-8.2
3D body "DG45C-B-10P-13.stp": height 18.4, standoff -5.19, extent -48.45,-8.15 48.45,8.15

## DG45CB_10_WS [mm] "Terminal Block Screw, Pitch 9.5mm, 20A/300v, with Spade"
height 19
pads (10):
  round 3 / inner round 3 / far side oval 3.5x5 hole 1.8: 1(42.75,0) 2(33.25,0) 3(23.75,0) 4(14.25,0) 5(4.75,0) 6(-4.75,0) 7(-14.25,0) 8(-23.75,0) 9(-33.25,0) 10(-42.75,0)
Top Overlay:
  circle w0.2: c42.75,0 r3
  circle w0.2: c33.25,0 r3
  circle w0.2: c23.75,0 r3
  circle w0.2: c4.75,0 r3
  circle w0.2: c-4.75,0 r3
  circle w0.2: c-14.25,0 r3
  circle w0.2: c-33.25,0 r3
  circle w0.2: c-42.75,0 r3
  circle w0.2: c-23.75,0 r3
  circle w0.2: c14.25,0 r3
  rectangle: -45.7,-8.3 -44.6,-7.2
  lines w0.2: -46.4,-6.5 -39,-6.5 ; -46.4,6.5 -39,6.5 ; -46,-3.3 -39.4,-3.3 ; -46,3.3 -39.4,3.3 ; -37,-6.5 -29.6,-6.5 ; -37,6.5 -29.6,6.5 ; -36.6,-3.3 -30,-3.3 ; -36.6,3.3 -30,3.3 ; -27.5,-8.2 -27.5,8.2 ; -27.5,-6.5 -20.1,-6.5 ; -27.5,6.5 -20.1,6.5 ; -27.5,-8.2 -29.5,-8.2 -29.5,8.2 -27.5,8.2 ; -27.1,-3.3 -20.5,-3.3 ; -27.1,3.3 -20.5,3.3 ; -18,-6.5 -10.6,-6.5 ; -18,6.5 -10.6,6.5 ; -17.6,-3.3 -11,-3.3 ; -17.6,3.3 -11,3.3 ; -8.5,-6.5 -1.1,-6.5 ; -8.5,6.5 -1.1,6.5 ; -8.1,-3.3 -1.5,-3.3 ; -8.1,3.3 -1.5,3.3 ; 1,-8.2 1,8.2 ; 1,-6.5 8.4,-6.5 ; 1,6.5 8.4,6.5 ; 1,-8.2 -1,-8.2 -1,8.2 1,8.2 ; 1.4,-3.3 8,-3.3 ; 1.4,3.3 8,3.3 ; 10.5,-6.5 17.9,-6.5 ; 10.5,6.5 17.9,6.5 ; 10.9,-3.3 17.5,-3.3 ; 10.9,3.3 17.5,3.3 ; 20,-6.5 27.4,-6.5 ; 20,6.5 27.4,6.5 ; 20.4,-3.3 27,-3.3 ; 20.4,3.3 27,3.3 ; 29.5,-6.5 36.9,-6.5 ; 29.5,6.5 36.9,6.5 ; 29.9,-3.3 36.5,-3.3 ; 29.9,3.3 36.5,3.3 ; 39,-6.5 46.4,-6.5 ; 39,6.5 46.4,6.5 ; 39.4,-3.3 46,-3.3 ; 39.4,3.3 46,3.3 ; -48.6,-8.2 -46.4,-8.2 -46.4,8.2 -48.6,8.2 -48.6,-8.2 ; -46,-4.6 -39.4,-4.6 -39.4,4.6 -46,4.6 -46,-4.6 ; -39,-8.2 -39,8.2 -37,8.2 -37,-8.2 -39,-8.2 ; -36.6,-4.6 -36.6,4.6 -30,4.6 -30,-4.6 -36.6,-4.6 ; -27.1,-4.6 -20.5,-4.6 -20.5,4.6 -27.1,4.6 -27.1,-4.6 ; -20,-8.2 -18,-8.2 -18,8.2 -20,8.2 -20,-8.2 ; -17.6,-4.6 -11,-4.6 -11,4.6 -17.6,4.6 -17.6,-4.6 ; -10.5,-8.2 -8.5,-8.2 -8.5,8.2 -10.5,8.2 -10.5,-8.2 ; -8.1,-4.6 -1.5,-4.6 -1.5,4.6 -8.1,4.6 -8.1,-4.6 ; 1.4,-4.6 8,-4.6 8,4.6 1.4,4.6 1.4,-4.6 ; 8.5,-8.2 10.5,-8.2 10.5,8.2 8.5,8.2 8.5,-8.2 ; 10.9,-4.6 17.5,-4.6 17.5,4.6 10.9,4.6 10.9,-4.6 ; 18,-8.2 20,-8.2 20,8.2 18,8.2 18,-8.2 ; 20.4,-4.6 27,-4.6 27,4.6 20.4,4.6 20.4,-4.6 ; 27.5,-8.2 29.5,-8.2 29.5,8.2 27.5,8.2 27.5,-8.2 ; 29.9,-4.6 36.5,-4.6 36.5,4.6 29.9,4.6 29.9,-4.6 ; 37,-8.2 39,-8.2 39,8.2 37,8.2 37,-8.2 ; 39.4,-4.6 46,-4.6 46,4.6 39.4,4.6 39.4,-4.6 ; 46.4,-8.2 46.4,8.2 48.6,8.2 48.6,-8.2 46.4,-8.2
3D body "DG45C-B-10P-13.stp": height 18.4, standoff -5.19, extent -48.45,-8.15 48.45,8.15
3D body "SV5.5-3.5-tin.step": height 17.15, standoff 9.25, extent 38.522,-3.792 46.822,21.7
3D body "SV5.5-3.5-tin.step": height 17.15, standoff 9.25, extent 28.997,-3.792 37.297,21.7
3D body "SV5.5-3.5-tin.step": height 17.15, standoff 9.25, extent 19.472,-3.792 27.772,21.7
3D body "SV5.5-3.5-tin.step": height 17.15, standoff 9.25, extent 9.947,-3.792 18.247,21.7
3D body "SV5.5-3.5-tin.step": height 17.15, standoff 9.25, extent 0.422,-3.792 8.722,21.7
3D body "SV5.5-3.5-tin.step": height 17.15, standoff 9.25, extent -9.103,-3.792 -0.803,21.7
3D body "SV5.5-3.5-tin.step": height 17.15, standoff 9.25, extent -18.628,-3.792 -10.328,21.7
3D body "SV5.5-3.5-tin.step": height 17.15, standoff 9.25, extent -28.153,-3.792 -19.853,21.7
3D body "SV5.5-3.5-tin.step": height 17.15, standoff 9.25, extent -37.678,-3.792 -29.378,21.7
3D body "SV5.5-3.5-tin.step": height 17.15, standoff 9.25, extent -47.076,-3.792 -38.776,21.7

## DG45SB_02 [mm] "Terminal Block Screw, Pitch 9.5mm, 20A/300v"
height 20
pads (2):
  round 3 / inner round 3 / far side oval 3.5x5 hole 1.8: 1(-4.75,0) 2(4.75,0)
Top Overlay:
  rectangle: -8,-5.3 -7,-4.3
  lines w0.2: -8.5,-4 -1,-4 ; -8.5,11.6 -1,11.6 ; -8.05,0.3 -6.6,0.3 ; -8.05,6.9 -1.45,6.9 ; -7.7,3.1 -5.2,3.1 -5.2,1.8 ; -7.7,4.1 -5.2,4.1 -5.2,6.5 ; -6.6,-1 -8.05,-1 -8.05,8.2 -1.45,8.2 -1.45,-1 -2.9,-1 ; -6.3,1.002 cw(c-4.8,3.6) -3.3,1.002 ; -4.4,1.8 -4.4,3.1 -1.9,3.1 ; -4.4,6.5 -4.4,4.1 -1.9,4.1 ; -2.9,0.3 -1.45,0.3 ; 1,-4.6 1,12.1 -1,12.1 -1,-4.6 1,-4.6 ; 1,-4 8.5,-4 ; 1,11.6 8.5,11.6 ; 1.45,0.3 2.9,0.3 ; 1.45,6.9 8.05,6.9 ; 1.8,3.1 4.3,3.1 4.3,1.8 ; 1.8,4.1 4.3,4.1 4.3,6.5 ; 2.9,-1 1.45,-1 1.45,8.2 8.05,8.2 8.05,-1 6.6,-1 ; 3.2,1.002 cw(c4.7,3.6) 6.2,1.002 ; 5.1,1.8 5.1,3.1 7.6,3.1 ; 5.1,6.5 5.1,4.1 7.6,4.1 ; 6.6,0.3 8.05,0.3 ; -10.5,-4.6 -10.5,12.1 -8.5,12.1 -8.5,-4.6 -10.5,-4.6 ; 8.5,-4.6 10.5,-4.6 10.5,12.1 8.5,12.1 8.5,-4.6
3D body "DG45S-02.STEP": height 18.5, standoff -4.99, extent -10.525,-4.5 10.525,12

## DG45SB_03 [mm] "Terminal Block Screw, Pitch 9.5mm, 20A/300v"
height 20
pads (3):
  round 3 / inner round 3 / far side oval 3.5x5 hole 1.8: 1(-9.5,0) 2(0,0) 3(9.5,0)
Top Overlay:
  rectangle: -12.75,-5.3 -11.75,-4.3
  lines w0.2: -13.25,-4 -5.75,-4 ; -13.25,11.6 -5.75,11.6 ; -12.8,0.3 -11.35,0.3 ; -12.8,6.9 -6.2,6.9 ; -12.45,3.1 -9.95,3.1 -9.95,1.8 ; -12.45,4.1 -9.95,4.1 -9.95,6.5 ; -11.35,-1 -12.8,-1 -12.8,8.2 -6.2,8.2 -6.2,-1 -7.65,-1 ; -11.05,1.002 cw(c-9.55,3.6) -8.05,1.002 ; -9.15,1.8 -9.15,3.1 -6.65,3.1 ; -9.15,6.5 -9.15,4.1 -6.65,4.1 ; -7.65,0.3 -6.2,0.3 ; -3.75,-4 3.75,-4 ; -3.75,11.6 3.75,11.6 ; -3.3,0.3 -1.85,0.3 ; -3.3,6.9 3.3,6.9 ; -2.95,3.1 -0.45,3.1 -0.45,1.8 ; -2.95,4.1 -0.45,4.1 -0.45,6.5 ; -1.85,-1 -3.3,-1 -3.3,8.2 3.3,8.2 3.3,-1 1.85,-1 ; -1.55,1.002 cw(c-0.05,3.6) 1.45,1.002 ; 0.35,1.8 0.35,3.1 2.85,3.1 ; 0.35,6.5 0.35,4.1 2.85,4.1 ; 1.85,0.3 3.3,0.3 ; 5.75,-4 13.25,-4 ; 5.75,11.6 13.25,11.6 ; 6.2,0.3 7.65,0.3 ; 6.2,6.9 12.8,6.9 ; 6.55,3.1 9.05,3.1 9.05,1.8 ; 6.55,4.1 9.05,4.1 9.05,6.5 ; 7.65,-1 6.2,-1 6.2,8.2 12.8,8.2 12.8,-1 11.35,-1 ; 7.95,1.002 cw(c9.45,3.6) 10.95,1.002 ; 9.85,1.8 9.85,3.1 12.35,3.1 ; 9.85,6.5 9.85,4.1 12.35,4.1 ; 11.35,0.3 12.8,0.3 ; -15.25,-4.6 -15.25,12.1 -13.25,12.1 -13.25,-4.6 -15.25,-4.6 ; -5.75,-4.6 -3.75,-4.6 -3.75,12.1 -5.75,12.1 -5.75,-4.6 ; 3.75,-4.6 5.75,-4.6 5.75,12.1 3.75,12.1 3.75,-4.6 ; 13.25,-4.6 15.25,-4.6 15.25,12.1 13.25,12.1 13.25,-4.6
3D body "DG45S-03.STEP": height 18.5, standoff -4.99, extent -15.275,-4.5 15.3,12

## DG45SB_04 [mm] "Terminal Block Screw, Pitch 9.5mm, 20A/300v"
height 20
pads (4):
  round 3 / inner round 3 / far side oval 3.5x5 hole 1.8: 1(-14.25,0) 2(-4.75,0) 3(4.75,0) 4(14.25,0)
Top Overlay:
  rectangle: -17.5,-5.3 -16.5,-4.3
  lines w0.2: -18,-4 -10.5,-4 ; -18,11.6 -10.5,11.6 ; -17.55,0.3 -16.1,0.3 ; -17.55,6.9 -10.95,6.9 ; -17.2,3.1 -14.7,3.1 -14.7,1.8 ; -17.2,4.1 -14.7,4.1 -14.7,6.5 ; -16.1,-1 -17.55,-1 -17.55,8.2 -10.95,8.2 -10.95,-1 -12.4,-1 ; -15.8,1.002 cw(c-14.3,3.6) -12.8,1.002 ; -13.9,1.8 -13.9,3.1 -11.4,3.1 ; -13.9,6.5 -13.9,4.1 -11.4,4.1 ; -12.4,0.3 -10.95,0.3 ; -8.5,-4 -1,-4 ; -8.5,11.6 -1,11.6 ; -8.05,0.3 -6.6,0.3 ; -8.05,6.9 -1.45,6.9 ; -7.7,3.1 -5.2,3.1 -5.2,1.8 ; -7.7,4.1 -5.2,4.1 -5.2,6.5 ; -6.6,-1 -8.05,-1 -8.05,8.2 -1.45,8.2 -1.45,-1 -2.9,-1 ; -6.3,1.002 cw(c-4.8,3.6) -3.3,1.002 ; -4.4,1.8 -4.4,3.1 -1.9,3.1 ; -4.4,6.5 -4.4,4.1 -1.9,4.1 ; -2.9,0.3 -1.45,0.3 ; 1,-4.6 1,12.1 -1,12.1 -1,-4.6 1,-4.6 ; 1,-4 8.5,-4 ; 1,11.6 8.5,11.6 ; 1.45,0.3 2.9,0.3 ; 1.45,6.9 8.05,6.9 ; 1.8,3.1 4.3,3.1 4.3,1.8 ; 1.8,4.1 4.3,4.1 4.3,6.5 ; 2.9,-1 1.45,-1 1.45,8.2 8.05,8.2 8.05,-1 6.6,-1 ; 3.2,1.002 cw(c4.7,3.6) 6.2,1.002 ; 5.1,1.8 5.1,3.1 7.6,3.1 ; 5.1,6.5 5.1,4.1 7.6,4.1 ; 6.6,0.3 8.05,0.3 ; 10.5,-4 18,-4 ; 10.5,11.6 18,11.6 ; 10.95,0.3 12.4,0.3 ; 10.95,6.9 17.55,6.9 ; 11.3,3.1 13.8,3.1 13.8,1.8 ; 11.3,4.1 13.8,4.1 13.8,6.5 ; 12.4,-1 10.95,-1 10.95,8.2 17.55,8.2 17.55,-1 16.1,-1 ; 12.7,1.002 cw(c14.2,3.6) 15.7,1.002 ; 14.6,1.8 14.6,3.1 17.1,3.1 ; 14.6,6.5 14.6,4.1 17.1,4.1 ; 16.1,0.3 17.55,0.3 ; -20,-4.6 -18,-4.6 -18,12.1 -20,12.1 -20,-4.6 ; -10.5,-4.6 -10.5,12.1 -8.5,12.1 -8.5,-4.6 -10.5,-4.6 ; 8.5,-4.6 8.5,12.1 10.5,12.1 10.5,-4.6 8.5,-4.6 ; 18,-4.6 18,12.1 20,12.1 20,-4.6 18,-4.6
3D body "DG45S-03.STEP": height 18.5, standoff -4.99, extent -20.025,-4.5 10.55,12
3D body "DG45S-03.STEP": height 18.5, standoff -4.99, extent -10.525,-4.5 20.05,12

## DG45SB_05 [mm] "Terminal Block Screw, Pitch 9.5mm, 20A/300v"
height 20
pads (5):
  round 3 / inner round 3 / far side oval 3.5x5 hole 1.8: 1(-19,0) 2(-9.5,0) 3(0,0) 4(9.5,0) 5(19,0)
Top Overlay:
  rectangle: -22.25,-5.3 -21.25,-4.3
  lines w0.2: -22.75,-4 -15.25,-4 ; -22.75,11.6 -15.25,11.6 ; -22.3,0.3 -20.85,0.3 ; -22.3,6.9 -15.7,6.9 ; -21.95,3.1 -19.45,3.1 -19.45,1.8 ; -21.95,4.1 -19.45,4.1 -19.45,6.5 ; -20.85,-1 -22.3,-1 -22.3,8.2 -15.7,8.2 -15.7,-1 -17.15,-1 ; -20.55,1.002 cw(c-19.05,3.6) -17.55,1.002 ; -18.65,1.8 -18.65,3.1 -16.15,3.1 ; -18.65,6.5 -18.65,4.1 -16.15,4.1 ; -17.15,0.3 -15.7,0.3 ; -13.25,-4 -5.75,-4 ; -13.25,11.6 -5.75,11.6 ; -12.8,0.3 -11.35,0.3 ; -12.8,6.9 -6.2,6.9 ; -12.45,3.1 -9.95,3.1 -9.95,1.8 ; -12.45,4.1 -9.95,4.1 -9.95,6.5 ; -11.35,-1 -12.8,-1 -12.8,8.2 -6.2,8.2 -6.2,-1 -7.65,-1 ; -11.05,1.002 cw(c-9.55,3.6) -8.05,1.002 ; -9.15,1.8 -9.15,3.1 -6.65,3.1 ; -9.15,6.5 -9.15,4.1 -6.65,4.1 ; -7.65,0.3 -6.2,0.3 ; -3.75,-4 3.75,-4 ; -3.75,11.6 3.75,11.6 ; -3.3,0.3 -1.85,0.3 ; -3.3,6.9 3.3,6.9 ; -2.95,3.1 -0.45,3.1 -0.45,1.8 ; -2.95,4.1 -0.45,4.1 -0.45,6.5 ; -1.85,-1 -3.3,-1 -3.3,8.2 3.3,8.2 3.3,-1 1.85,-1 ; -1.55,1.002 cw(c-0.05,3.6) 1.45,1.002 ; 0.35,1.8 0.35,3.1 2.85,3.1 ; 0.35,6.5 0.35,4.1 2.85,4.1 ; 1.85,0.3 3.3,0.3 ; 5.75,-4 13.25,-4 ; 5.75,11.6 13.25,11.6 ; 6.2,0.3 7.65,0.3 ; 6.2,6.9 12.8,6.9 ; 6.55,3.1 9.05,3.1 9.05,1.8 ; 6.55,4.1 9.05,4.1 9.05,6.5 ; 7.65,-1 6.2,-1 6.2,8.2 12.8,8.2 12.8,-1 11.35,-1 ; 7.95,1.002 cw(c9.45,3.6) 10.95,1.002 ; 9.85,1.8 9.85,3.1 12.35,3.1 ; 9.85,6.5 9.85,4.1 12.35,4.1 ; 11.35,0.3 12.8,0.3 ; 15.25,-4 22.75,-4 ; 15.25,11.6 22.75,11.6 ; 15.7,0.3 17.15,0.3 ; 15.7,6.9 22.3,6.9 ; 16.05,3.1 18.55,3.1 18.55,1.8 ; 16.05,4.1 18.55,4.1 18.55,6.5 ; 17.15,-1 15.7,-1 15.7,8.2 22.3,8.2 22.3,-1 20.85,-1 ; 17.45,1.002 cw(c18.95,3.6) 20.45,1.002 ; 19.35,1.8 19.35,3.1 21.85,3.1 ; 19.35,6.5 19.35,4.1 21.85,4.1 ; 20.85,0.3 22.3,0.3 ; -24.75,-4.6 -22.75,-4.6 -22.75,12.1 -24.75,12.1 -24.75,-4.6 ; -15.25,-4.6 -15.25,12.1 -13.25,12.1 -13.25,-4.6 -15.25,-4.6 ; -5.75,-4.6 -5.75,12.1 -3.75,12.1 -3.75,-4.6 -5.75,-4.6 ; 3.75,-4.6 3.75,12.1 5.75,12.1 5.75,-4.6 3.75,-4.6 ; 13.25,-4.6 13.25,12.1 15.25,12.1 15.25,-4.6 13.25,-4.6 ; 22.75,-4.6 22.75,12.1 24.75,12.1 24.75,-4.6 22.75,-4.6
3D body "DG45S-03.STEP": height 18.5, standoff -4.99, extent -24.775,-4.5 5.8,12
3D body "DG45S-03.STEP": height 18.5, standoff -4.99, extent -5.775,-4.5 24.8,12

## DG45SB_06 [mm] "Terminal Block Screw, Pitch 9.5mm, 20A/300v"
height 20
pads (6):
  round 3 / inner round 3 / far side oval 3.5x5 hole 1.8: 1(-23.75,0) 2(-14.25,0) 3(-4.75,0) 4(4.75,0) 5(14.25,0) 6(23.75,0)
Top Overlay:
  rectangle: -27,-5.3 -26,-4.3
  lines w0.2: -27.5,-4 -20,-4 ; -27.5,11.6 -20,11.6 ; -27.05,0.3 -25.6,0.3 ; -27.05,6.9 -20.45,6.9 ; -26.7,3.1 -24.2,3.1 -24.2,1.8 ; -26.7,4.1 -24.2,4.1 -24.2,6.5 ; -25.6,-1 -27.05,-1 -27.05,8.2 -20.45,8.2 -20.45,-1 -21.9,-1 ; -25.3,1.002 cw(c-23.8,3.6) -22.3,1.002 ; -23.4,1.8 -23.4,3.1 -20.9,3.1 ; -23.4,6.5 -23.4,4.1 -20.9,4.1 ; -21.9,0.3 -20.45,0.3 ; -18,-4 -10.5,-4 ; -18,11.6 -10.5,11.6 ; -17.55,0.3 -16.1,0.3 ; -17.55,6.9 -10.95,6.9 ; -17.2,3.1 -14.7,3.1 -14.7,1.8 ; -17.2,4.1 -14.7,4.1 -14.7,6.5 ; -16.1,-1 -17.55,-1 -17.55,8.2 -10.95,8.2 -10.95,-1 -12.4,-1 ; -15.8,1.002 cw(c-14.3,3.6) -12.8,1.002 ; -13.9,1.8 -13.9,3.1 -11.4,3.1 ; -13.9,6.5 -13.9,4.1 -11.4,4.1 ; -12.4,0.3 -10.95,0.3 ; -8.5,-4 -1,-4 ; -8.5,11.6 -1,11.6 ; -8.05,0.3 -6.6,0.3 ; -8.05,6.9 -1.45,6.9 ; -7.7,3.1 -5.2,3.1 -5.2,1.8 ; -7.7,4.1 -5.2,4.1 -5.2,6.5 ; -6.6,-1 -8.05,-1 -8.05,8.2 -1.45,8.2 -1.45,-1 -2.9,-1 ; -6.3,1.002 cw(c-4.8,3.6) -3.3,1.002 ; -4.4,1.8 -4.4,3.1 -1.9,3.1 ; -4.4,6.5 -4.4,4.1 -1.9,4.1 ; -2.9,0.3 -1.45,0.3 ; 1,-4.6 1,12.1 -1,12.1 -1,-4.6 1,-4.6 ; 1,-4 8.5,-4 ; 1,11.6 8.5,11.6 ; 1.45,0.3 2.9,0.3 ; 1.45,6.9 8.05,6.9 ; 1.8,3.1 4.3,3.1 4.3,1.8 ; 1.8,4.1 4.3,4.1 4.3,6.5 ; 2.9,-1 1.45,-1 1.45,8.2 8.05,8.2 8.05,-1 6.6,-1 ; 3.2,1.002 cw(c4.7,3.6) 6.2,1.002 ; 5.1,1.8 5.1,3.1 7.6,3.1 ; 5.1,6.5 5.1,4.1 7.6,4.1 ; 6.6,0.3 8.05,0.3 ; 10.5,-4 18,-4 ; 10.5,11.6 18,11.6 ; 10.95,0.3 12.4,0.3 ; 10.95,6.9 17.55,6.9 ; 11.3,3.1 13.8,3.1 13.8,1.8 ; 11.3,4.1 13.8,4.1 13.8,6.5 ; 12.4,-1 10.95,-1 10.95,8.2 17.55,8.2 17.55,-1 16.1,-1 ; 12.7,1.002 cw(c14.2,3.6) 15.7,1.002 ; 14.6,1.8 14.6,3.1 17.1,3.1 ; 14.6,6.5 14.6,4.1 17.1,4.1 ; 16.1,0.3 17.55,0.3 ; 20,-4 27.5,-4 ; 20,11.6 27.5,11.6 ; 20.45,0.3 21.9,0.3 ; 20.45,6.9 27.05,6.9 ; 20.8,3.1 23.3,3.1 23.3,1.8 ; 20.8,4.1 23.3,4.1 23.3,6.5 ; 21.9,-1 20.45,-1 20.45,8.2 27.05,8.2 27.05,-1 25.6,-1 ; 22.2,1.002 cw(c23.7,3.6) 25.2,1.002 ; 24.1,1.8 24.1,3.1 26.6,3.1 ; 24.1,6.5 24.1,4.1 26.6,4.1 ; 25.6,0.3 27.05,0.3 ; -29.5,-4.6 -29.5,12.1 -27.5,12.1 -27.5,-4.6 -29.5,-4.6 ; -20,-4.6 -18,-4.6 -18,12.1 -20,12.1 -20,-4.6 ; -10.5,-4.6 -8.5,-4.6 -8.5,12.1 -10.5,12.1 -10.5,-4.6 ; 8.5,-4.6 10.5,-4.6 10.5,12.1 8.5,12.1 8.5,-4.6 ; 18,-4.6 20,-4.6 20,12.1 18,12.1 18,-4.6 ; 27.5,-4.6 29.5,-4.6 29.5,12.1 27.5,12.1 27.5,-4.6
3D body "DG45S-03.STEP": height 18.5, standoff -4.99, extent -1.025,-4.5 29.55,12
3D body "DG45S-03.STEP": height 18.5, standoff -4.99, extent -29.525,-4.5 1.05,12